# EAGLE library part MCP3002 (library ic-Microchip)
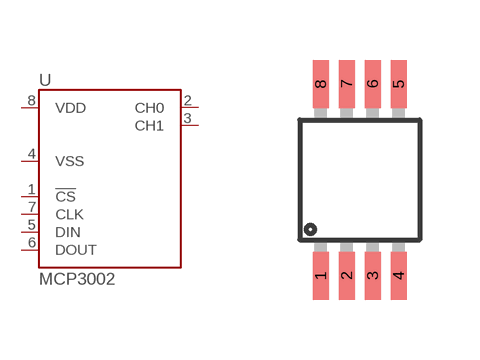
[diagram p0: symbol with the pads of MSOP8; footprint MSOP8]

Designator prefix U

## MCP3002  [MSOP8]
1  !CS
2  CH0
3  CH1
4  VSS
5  DIN
6  DOUT
7  CLK
8  VDD

## Footprint MSOP8 (pad centres in mm)
smd 0.4 x 1.2: 1 -0.975,-2.4; 2 -0.325,-2.4; 3 0.325,-2.4; 4 0.975,-2.4; 5 0.975,2.4; 6 0.325,2.4; 7 -0.325,2.4; 8 -0.975,2.4